# Altium integrated library WE-FB_3751_rev15a.intlib: 4 symbols
Pins are listed as number, name and electrical type; pins without a type are passive.

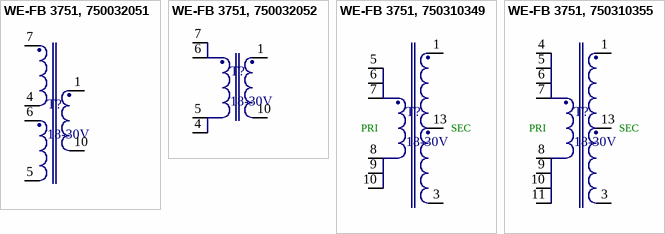
[diagram p0: symbols WE-FB 3751, 750032051 to WE-FB 3751, 750310355]

## WE-FB 3751, 750032051
designator T?, comment 18-30V
Flyback Transformer for LT3751 WE-FB 3751 , Ui=18-30V; PartNo: 750032051; Manufacturer: Würth Elektronik eiSos GmbH; Ui: 18-30V; ComponentLink1Description: Manufacturer; ComponentLink1URL: http://www.we-online.de; Created by: Otto Christin; Created Date: OCT 2013; ComponentLink2Description: Datasheet; ComponentLink2URL: http://katalog.we-online.de/pbs/datasheet/750032051.pdf
footprint EFD20 (SMD, 10-Leads, Body 22.0x20.0mm (max), Pitch 3.75mm, IPC Medium Density)
pins: 1, 4, 5, 6, 7, 10

## WE-FB 3751, 750032052
designator T?, comment 18-30V
Flyback Transformer for LT3751 WE-FB 3751 , Ui=18-30V; PartNo: 750032052; Manufacturer: Würth Elektronik eiSos GmbH; Ui: 18-30V; ComponentLink1Description: Manufacturer; ComponentLink1URL: http://www.we-online.de; Created by: Otto Christin; Created Date: OCT 2013; ComponentLink2Description: Datasheet; ComponentLink2URL: http://katalog.we-online.de/pbs/datasheet/750032052.pdf
footprint EFD20 (SMD, 10-Leads, Body 22.0x20.0mm (max), Pitch 3.75mm, IPC Medium Density)
pins: 1, 4, 5, 6, 7, 10

## WE-FB 3751, 750310349
designator T?, comment 18-30V
Flyback Transformer for LT3751 WE-FB 3751 , Ui=18-30V; PartNo: 750310349; Manufacturer: Würth Elektronik eiSos GmbH; Ui: 18-30V; ComponentLink1Description: Manufacturer; ComponentLink1URL: http://www.we-online.de; Created by: Otto Christin; Created Date: OCT 2013; ComponentLink2Description: Datasheet; ComponentLink2URL: http://katalog.we-online.de/pbs/datasheet/750310349.pdf
footprint EE35/18/10 (THT, 14-Leads, Body 42.0x36.5.0mm (max), Pitch 4.5mm)
pins: 1, 3, 5, 6, 7, 8, 9, 10, 13
text: PRI; SEC

## WE-FB 3751, 750310355
designator T?, comment 18-30V
Flyback Transformer for LT3751 WE-FB 3751 , Ui=18-30V; PartNo: 750310355; Manufacturer: Würth Elektronik eiSos GmbH; Ui: 18-30V; ComponentLink1Description: Manufacturer; ComponentLink1URL: http://www.we-online.de; Created by: Otto Christin; Created Date: OCT 2013; ComponentLink2Description: Datasheet; ComponentLink2URL: http://katalog.we-online.de/pbs/datasheet/750310355.pdf
footprint EE35/18/10 (THT, 14-Leads, Body 42.0x36.5.0mm (max), Pitch 4.5mm)
pins: 1, 3, 4, 5, 6, 7, 8, 9, 10, 11, 13
text: PRI; SEC